# Altium footprint library TP4056.PcbLib: 3 footprints
Each footprint in its own frame and in the unit in brackets; x right, y up, seen from the top. Pads: shape width x height; smd on the part's side, far side on the other; paste and mask are expansions set on the pad; w line width, h text height; cw(c..) or ccw(c..) is an arc to the next point about the centre after c.
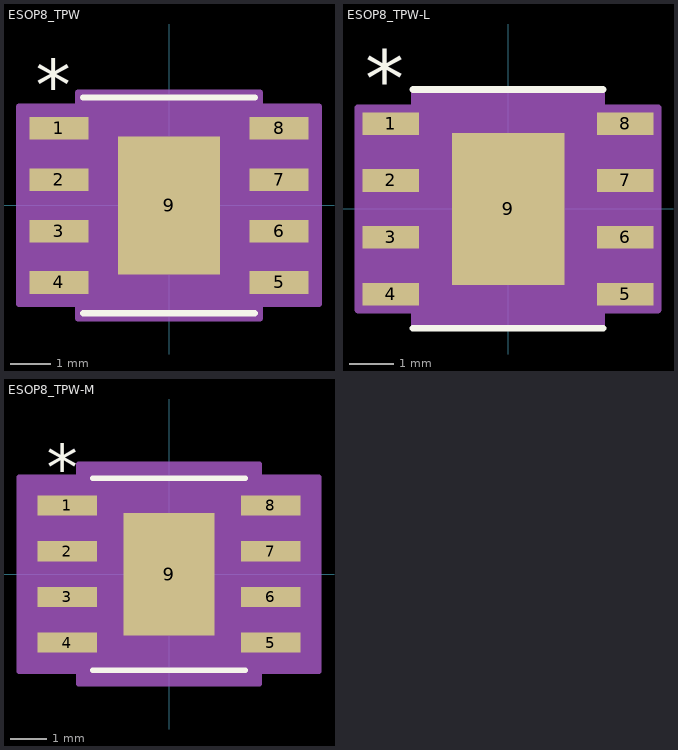
[diagram p0: the footprints below, top view; thin cyan lines are the x and y axes]

## ESOP8_TPW [mil]
pads (9):
  rect 57.5x22 smd paste+0 mask+0: 1(-107.25,75) 2(-107.25,25) 3(-107.25,-25) 4(-107.25,-75) 5(107.25,-75) 6(107.25,-25) 7(107.25,25) 8(107.25,75)
  rect 99x134 smd paste-66.5 mask+0: 9(0,0)
Top Overlay:
  lines w6: -83.5,-105 83.5,-105 ; -83.5,105 83.5,105
  text "*" at -129.75,92 h50
Top Paste:
  region: 45.56,63.06 -45.56,63.06 -45.56,3.94 45.56,3.94
  region: 45.56,-3.94 -45.56,-3.94 -45.56,-63.06 45.56,-63.06
Mechanical 13:
  lines w0: -12,100 ccw(c0,100) 12,100
  lines w1: -122,-85 -122,-65 -78.5,-65 -78.5,-85 -122,-85 ; -122,-35 -122,-15 -78.5,-15 -78.5,-35 -122,-35 ; -122,15 -122,35 -78.5,35 -78.5,15 -122,15 ; -122,65 -122,85 -78.5,85 -78.5,65 -122,65 ; -78.5,-100 78.5,-100 78.5,100 -78.5,100 -78.5,-100 ; 78.5,-85 78.5,-65 122,-65 122,-85 78.5,-85 ; 78.5,-35 78.5,-15 122,-15 122,-35 78.5,-35 ; 78.5,15 78.5,35 122,35 122,15 78.5,15 ; 78.5,65 78.5,85 122,85 122,65 78.5,65
  text "*" at -76,47 h50
Mechanical 15:
  region: -88.5,-96 -146,-96 -146,96 -88.5,96 -88.5,110 88.5,110 88.5,96 146,96 146,-96 88.5,-96 88.5,-110 -88.5,-110
  lines w6: -146,-96 -146,96 -88.5,96 -88.5,110 88.5,110 88.5,96 146,96 146,-96 88.5,-96 88.5,-110 -88.5,-110 -88.5,-96 -146,-96
3D body "ESOP8_TPW.step": height 69.09, standoff -2.01, extent -122.01,-100 122.01,100

## ESOP8_TPW-L [mil]
pads (9):
  rect 49.5x20 smd paste+0 mask+0: 1(-103.25,75) 2(-103.25,25) 3(-103.25,-25) 4(-103.25,-75) 5(103.25,-75) 6(103.25,-25) 7(103.25,25) 8(103.25,75)
  rect 99x134 smd paste-66.5 mask+0: 9(0,0)
Top Overlay:
  lines w6: -83.5,-105 83.5,-105 ; -83.5,105 83.5,105
  text "*" at -125.75,90 h50
Top Paste:
  region: 45.56,63.06 -45.56,63.06 -45.56,3.94 45.56,3.94
  region: 45.56,-3.94 -45.56,-3.94 -45.56,-63.06 45.56,-63.06
Mechanical 13:
  lines w0: -12,100 ccw(c0,100) 12,100
  lines w1: -122,-85 -122,-65 -78.5,-65 -78.5,-85 -122,-85 ; -122,-35 -122,-15 -78.5,-15 -78.5,-35 -122,-35 ; -122,15 -122,35 -78.5,35 -78.5,15 -122,15 ; -122,65 -122,85 -78.5,85 -78.5,65 -122,65 ; -78.5,-100 78.5,-100 78.5,100 -78.5,100 -78.5,-100 ; 78.5,-85 78.5,-65 122,-65 122,-85 78.5,-85 ; 78.5,-35 78.5,-15 122,-15 122,-35 78.5,-35 ; 78.5,15 78.5,35 122,35 122,15 78.5,15 ; 78.5,65 78.5,85 122,85 122,65 78.5,65
  text "*" at -76,47 h50
Mechanical 15:
  region: -82.5,-89 -132,-89 -132,89 -82.5,89 -82.5,104 82.5,104 82.5,89 132,89 132,-89 82.5,-89 82.5,-104 -82.5,-104
  lines w6: -132,-89 -132,89 -82.5,89 -82.5,104 82.5,104 82.5,89 132,89 132,-89 82.5,-89 82.5,-104 -82.5,-104 -82.5,-89 -132,-89
3D body "ESOP8_TPW.step": height 69.09, standoff -2.01, extent -122.01,-100 122.01,100

## ESOP8_TPW-M [mil]
pads (9):
  rect 65.5x22 smd paste+0 mask+0: 1(-111.25,75) 2(-111.25,25) 3(-111.25,-25) 4(-111.25,-75) 5(111.25,-75) 6(111.25,-25) 7(111.25,25) 8(111.25,75)
  rect 99x134 smd paste-66.5 mask+0: 9(0,0)
Top Overlay:
  lines w6: -83.5,-105 83.5,-105 ; -83.5,105 83.5,105
  text "*" at -133.75,92 h50
Top Paste:
  region: 45.56,63.06 -45.56,63.06 -45.56,3.94 45.56,3.94
  region: 45.56,-3.94 -45.56,-3.94 -45.56,-63.06 45.56,-63.06
Mechanical 13:
  lines w0: -12,100 ccw(c0,100) 12,100
  lines w1: -122,-85 -122,-65 -78.5,-65 -78.5,-85 -122,-85 ; -122,-35 -122,-15 -78.5,-15 -78.5,-35 -122,-35 ; -122,15 -122,35 -78.5,35 -78.5,15 -122,15 ; -122,65 -122,85 -78.5,85 -78.5,65 -122,65 ; -78.5,-100 78.5,-100 78.5,100 -78.5,100 -78.5,-100 ; 78.5,-85 78.5,-65 122,-65 122,-85 78.5,-85 ; 78.5,-35 78.5,-15 122,-15 122,-35 78.5,-35 ; 78.5,15 78.5,35 122,35 122,15 78.5,15 ; 78.5,65 78.5,85 122,85 122,65 78.5,65
  text "*" at -76,47 h50
Mechanical 15:
  region: -98.5,-106 -164,-106 -164,106 -98.5,106 -98.5,120 98.5,120 98.5,106 164,106 164,-106 98.5,-106 98.5,-120 -98.5,-120
  lines w6: -164,-106 -164,106 -98.5,106 -98.5,120 98.5,120 98.5,106 164,106 164,-106 98.5,-106 98.5,-120 -98.5,-120 -98.5,-106 -164,-106
3D body "ESOP8_TPW.step": height 69.09, standoff -2.01, extent -122.01,-100 122.01,100